# Altium footprint library dg.PcbLib: 57 footprints (part 3 of 4)
Each footprint in its own frame and in the unit in brackets; x right, y up, seen from the top. Pads: shape width x height; smd on the part's side, far side on the other; paste and mask are expansions set on the pad; w line width, h text height; cw(c..) or ccw(c..) is an arc to the next point about the centre after c.
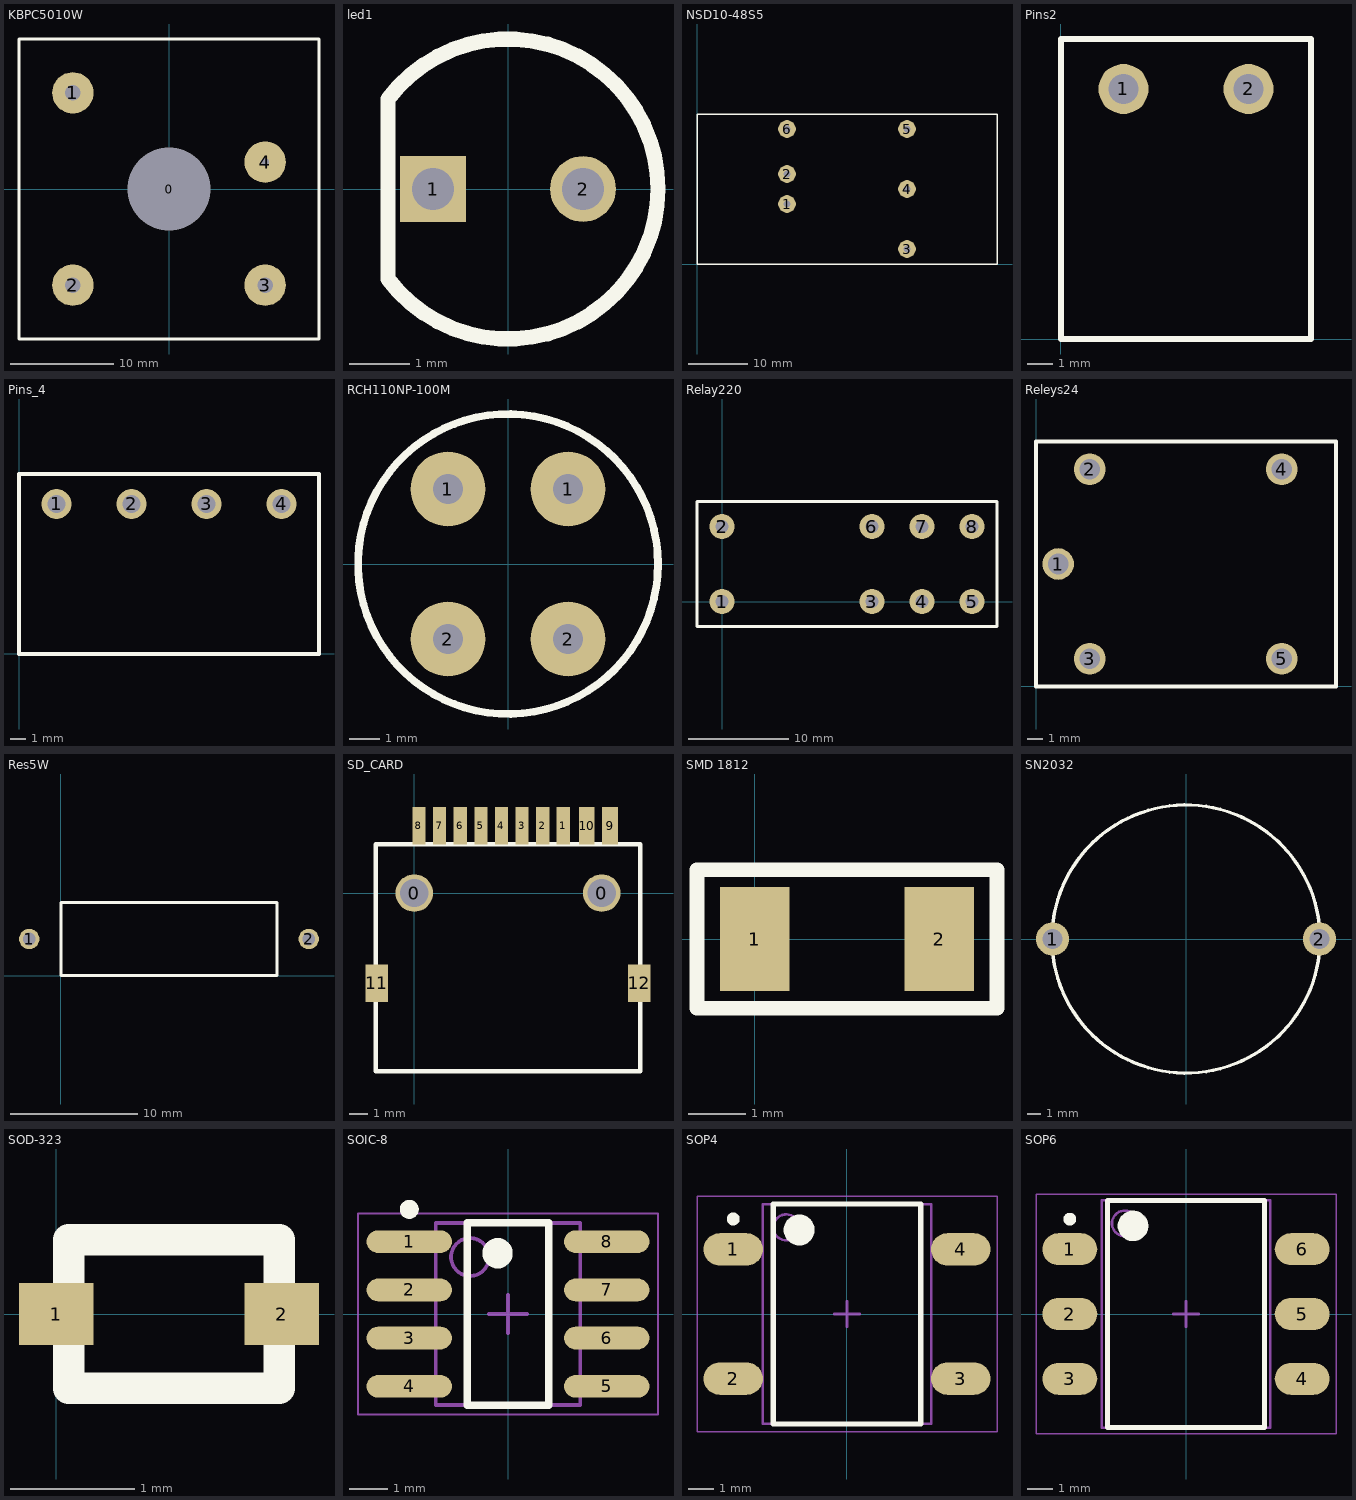
[diagram p2: the footprints below, top view; thin cyan lines are the x and y axes]

## KBPC5010W [mm]
height 11.5
pads (5):
  round 1.524 hole 8: 0(0,0)
  round 4 hole 1.5: 1(-9.3,9.3) 2(-9.3,-9.3) 3(9.3,-9.3)
  round 4 hole 0.762: 4(9.3,2.6)
Top Overlay:
  lines w0.254: -14.5,-14.5 14.5,-14.5 14.5,14.5 -14.5,14.5 -14.5,-14.5

## led1 [mm]
height 7
pads (2):
  rect 1.1x1.1 hole 0.7: 1(-1.25,0)
  round 1.1 hole 0.7: 2(1.25,0)
Top Overlay:
  lines w0.254: -2,-1.5 ccw(c0,0) -2,1.5 -2,-1.5

## NSD10-48S5 [mm]
height 10
pads (6):
  round 3 hole 1.2: 1(15.24,10.16) 2(15.24,15.24) 3(35.56,2.54) 4(35.56,12.7) 5(35.56,22.86) 6(15.24,22.86)
Top Overlay:
  lines w0.254: 0,0 50.8,0 50.8,25.4 0,25.4 0,0

## Pins2 [mm]
height 7.7
pads (2):
  round 2 hole 1.2: 1(2.5,10) 2(7.5,10)
Top Overlay:
  lines w0.254: 0,0 0,12 10,12 10,0 0,0

## Pins_4 [mm]
height 7.7
pads (4):
  round 2 hole 1.2: 1(2.5,10) 2(7.5,10) 3(12.5,10) 4(17.5,10)
Top Overlay:
  lines w0.254: 0,0 0,12 20,12 20,0 0,0

## RCH110NP-100M [mm]
height 10
pads (4):
  round 2.5 hole 1: 1(-2,2.5) 1(2,2.5) 2(-2,-2.5) 2(2,-2.5)
Top Overlay:
  circle w0.254: c0,0 r5

## Relay220 [mm]
height 15.7
pads (8):
  round 2.5 hole 1.3: 1(0,0) 2(0,7.5) 3(15,0) 4(20,0) 5(25,0) 6(15,7.5) 7(20,7.5) 8(25,7.5)
Top Overlay:
  lines w0.254: -2.5,-2.5 -2.5,10 27.5,10 27.5,-2.5 -2.5,-2.5
3D body "User Library-miniature relays RM84 2012-35-1005.STEP": height 16.03, standoff -3.9, extent -2.5,-2.6 26.5,10.1

## Releys24 [mm]
height 15.2
pads (5):
  round 2 hole 1.3: 1(1.4,7.75) 3(3.4,1.75) 4(15.56,13.75) 5(15.56,1.75)
  round 2 hole 1.3 paste+0: 2(3.4,13.75)
Top Overlay:
  lines w0.254: 0,0 19,0 19,15.5 0,15.5 0,0

## Res5W [mm]
height 6.2
pads (2):
  round 1.6 hole 1: 1(-2.5,2.875) 2(19.5,2.875)
Top Overlay:
  lines w0.254: 0,0 17,0 17,5.75 0,5.75 0,0

## SD_CARD [mm]
pads (14):
  round 2 hole 1.5: 0(0,0) 0(10,0)
  rect 0.7x2 smd: 1(7.95,3.6) 2(6.85,3.6) 3(5.75,3.6) 4(4.65,3.6) 5(3.55,3.6) 6(2.45,3.6) 7(1.35,3.6) 8(0.25,3.6)
  rect 0.85x2 smd: 9(10.45,3.6) 10(9.2,3.6)
  rect 1.2x2 smd: 11(-2,-4.8) 12(12,-4.8)
Top Overlay:
  lines w0.254: -2.05,-9.5 -2.05,2.6 12.05,2.6 12.05,-9.5 -2.05,-9.5

## SMD 1812 [mm]
height 1
pads (2):
  rect 1.2x1.8 smd: 1(0,0) 2(3.2,0)
Top Overlay:
  lines w0.254: -1,-1.2 -1,1.2 4.2,1.2 4.2,-1.2 -1,-1.2

## SN2032 [mm]
height 9
pads (2):
  round 2.5 hole 1.5: 1(-10.05,0) 2(10.05,0)
Top Overlay:
  circle w0.254: c0,0 r10.1

## SOD-323 [mm]
height 1.2
pads (2):
  rect 0.6x0.5 smd: 1(0,0) 2(1.82,0)
Top Overlay:
  lines w0.254: 0.1,-0.6 0.1,0.6 1.8,0.6 1.8,-0.6 0.1,-0.6

## SOIC-8 [mm] "SOIC, 8-Leads, Body 4,90x3,90mm, Pitch 1,27mm, IPC Medium Density"
height 1.75
pads (8):
  oval 2.25x0.6 smd: 1(-2.6,1.905) 2(-2.6,0.635) 3(-2.6,-0.635) 4(-2.6,-1.905) 5(2.6,-1.905) 6(2.6,-0.635) 7(2.6,0.635) 8(2.6,1.905)
Top Overlay:
  circle w0.25: c-2.6,2.755 r0.125
  circle w0.4: c-0.275,1.6 r0.2
  lines w0.2: -1.075,-2.4 -1.075,2.4 1.075,2.4 1.075,-2.4 -1.075,-2.4
Mechanical 13:
  circle w0.1: c-1,1.5 r0.5
  lines w0.1: -1.9,-2.4 -1.9,2.4 1.9,2.4 1.9,-2.4 -1.9,-2.4
Mechanical 15:
  lines w0.05: -3.95,-2.65 -3.95,2.65 3.95,2.65 3.95,-2.65 -3.95,-2.65
  lines w0.1: -0.5,0 0.5,0 ; 0,-0.5 0,0.5
3D body: height 1.75, standoff 1.3, extent -1.9,-2.4 1.9,2.4

## SOP4 [mm] "SOP, 4-Leads, Body 8,32x6,35mm, Pitch 5,00mm, IPC Medium Density"
height 3.4
pads (4):
  oval 2.3x1.25 smd: 1(-4.4,2.5) 2(-4.4,-2.5) 3(4.4,-2.5) 4(4.4,2.5)
Top Overlay:
  circle w0.6: c-1.85,3.25 r0.3
  circle w0.25: c-4.4,3.675 r0.125
  lines w0.2: -2.85,-4.25 2.85,-4.25 2.85,4.25 -2.85,4.25 -2.85,-4.25
Mechanical 13:
  circle w0.1: c-2.35,3.35 r0.5
  lines w0.1: -3.25,-4.25 3.25,-4.25 3.25,4.25 -3.25,4.25 -3.25,-4.25
Mechanical 15:
  lines w0.05: -5.8,-4.55 5.8,-4.55 5.8,4.55 -5.8,4.55 -5.8,-4.55
  lines w0.1: -0.5,0 0.5,0 ; 0,-0.5 0,0.5
3D body: height 3.4, standoff 0.1, extent -3.25,-4.25 3.25,4.25

## SOP6 [mm]
height 5.08
pads (6):
  oval 2.15x1.25 smd: 1(-4.55,2.54) 2(-4.55,0) 3(-4.55,-2.54) 4(4.55,-2.54) 5(4.55,0) 6(4.55,2.54)
Top Overlay:
  circle w0.25: c-4.55,3.715 r0.125
  circle w0.6: c-2.075,3.45 r0.3
  lines w0.2: -3.075,-4.45 -3.075,4.45 3.075,4.45 3.075,-4.45 -3.075,-4.45
Mechanical 13:
  circle w0.1: c-2.4,3.55 r0.5
  lines w0.1: -3.3,-4.45 -3.3,4.45 3.3,4.45 3.3,-4.45 -3.3,-4.45
Mechanical 15:
  lines w0.05: -5.875,-4.7 -5.875,4.7 5.875,4.7 5.875,-4.7 -5.875,-4.7
  lines w0.1: -0.5,0 0.5,0 ; 0,-0.5 0,0.5
3D body: height 5.08, standoff 0.3, extent -3.3,-4.45 3.3,4.45